# Altium integrated library 1-2199298-2.IntLib: 1 symbol
Pins are listed as number, name and electrical type; pins without a type are passive.

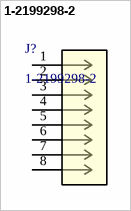
[diagram p0: symbol 1-2199298-2]

## 1-2199298-2
designator J?
8P,DIP SKT,300 CL,LDR,PB FREE; Manufacturer_Name: TE Connectivity; TYPE: DIP; Copyright: Copyright (C) 2026 Ultra Librarian. All rights reserved.; Manufacturer_Part_Number: 1-2199298-2; RefDes: RefDes
footprint CONN8_1-2199298-2_TEC
pins: 1, 2, 3, 4, 5, 6, 7, 8